# EAGLE library part HMC439QS16G (library microwave)
HBT DIGITAL PHASE-FREQUENCY DETECTOR, 10 - 1300 MHz Source: http://www.hittite.com/product_info/product_specs/dividersdetectors/hmc439qs16g.pdf
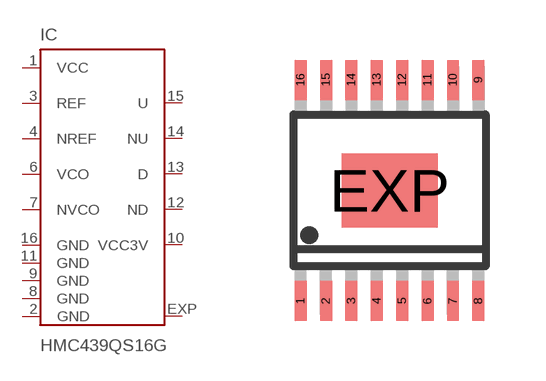
[diagram p2: symbol with the pads of QSOP16; footprint QSOP16]

Designator prefix IC

## HMC439QS16G (OC_FARNELL: unknown; OC_NEWARK: unknown)  [QSOP16]
1  VCC  pwr
2  GND  pwr
3  REF  in
4  NREF  in
6  VCO  in
7  NVCO  in
8  GND  pwr
9  GND  pwr
10  VCC3V  pas
11  GND  pwr
12  ND  oc
13  D  oc
14  NU  oc
15  U  oc
16  GND  pwr
EXP  EXP  pas

## Footprint QSOP16 (pad centres in mm)
QSOP 16 Source: http://www.hittite.com/product_info/product_specs/dividersdetectors/hmc439qs16g.pdf
smd 0.3 x 1: 1 -2.223,-2.768; 2 -1.587,-2.768; 3 -0.953,-2.768; 4 -0.318,-2.768; 5 0.318,-2.768; 6 0.953,-2.768; 7 1.587,-2.768; 8 2.223,-2.768; 9 2.223,2.768; 10 1.587,2.768; 11 0.953,2.768; 12 0.318,2.768; 13 -0.318,2.768; 14 -0.953,2.768; 15 -1.587,2.768; 16 -2.223,2.768
smd 2.4 x 1.85: EXP 0,0